# Altium integrated library Battery Management System Rev3.IntLib: 54 symbols
Pins are listed as number, name and electrical type; pins without a type are passive.

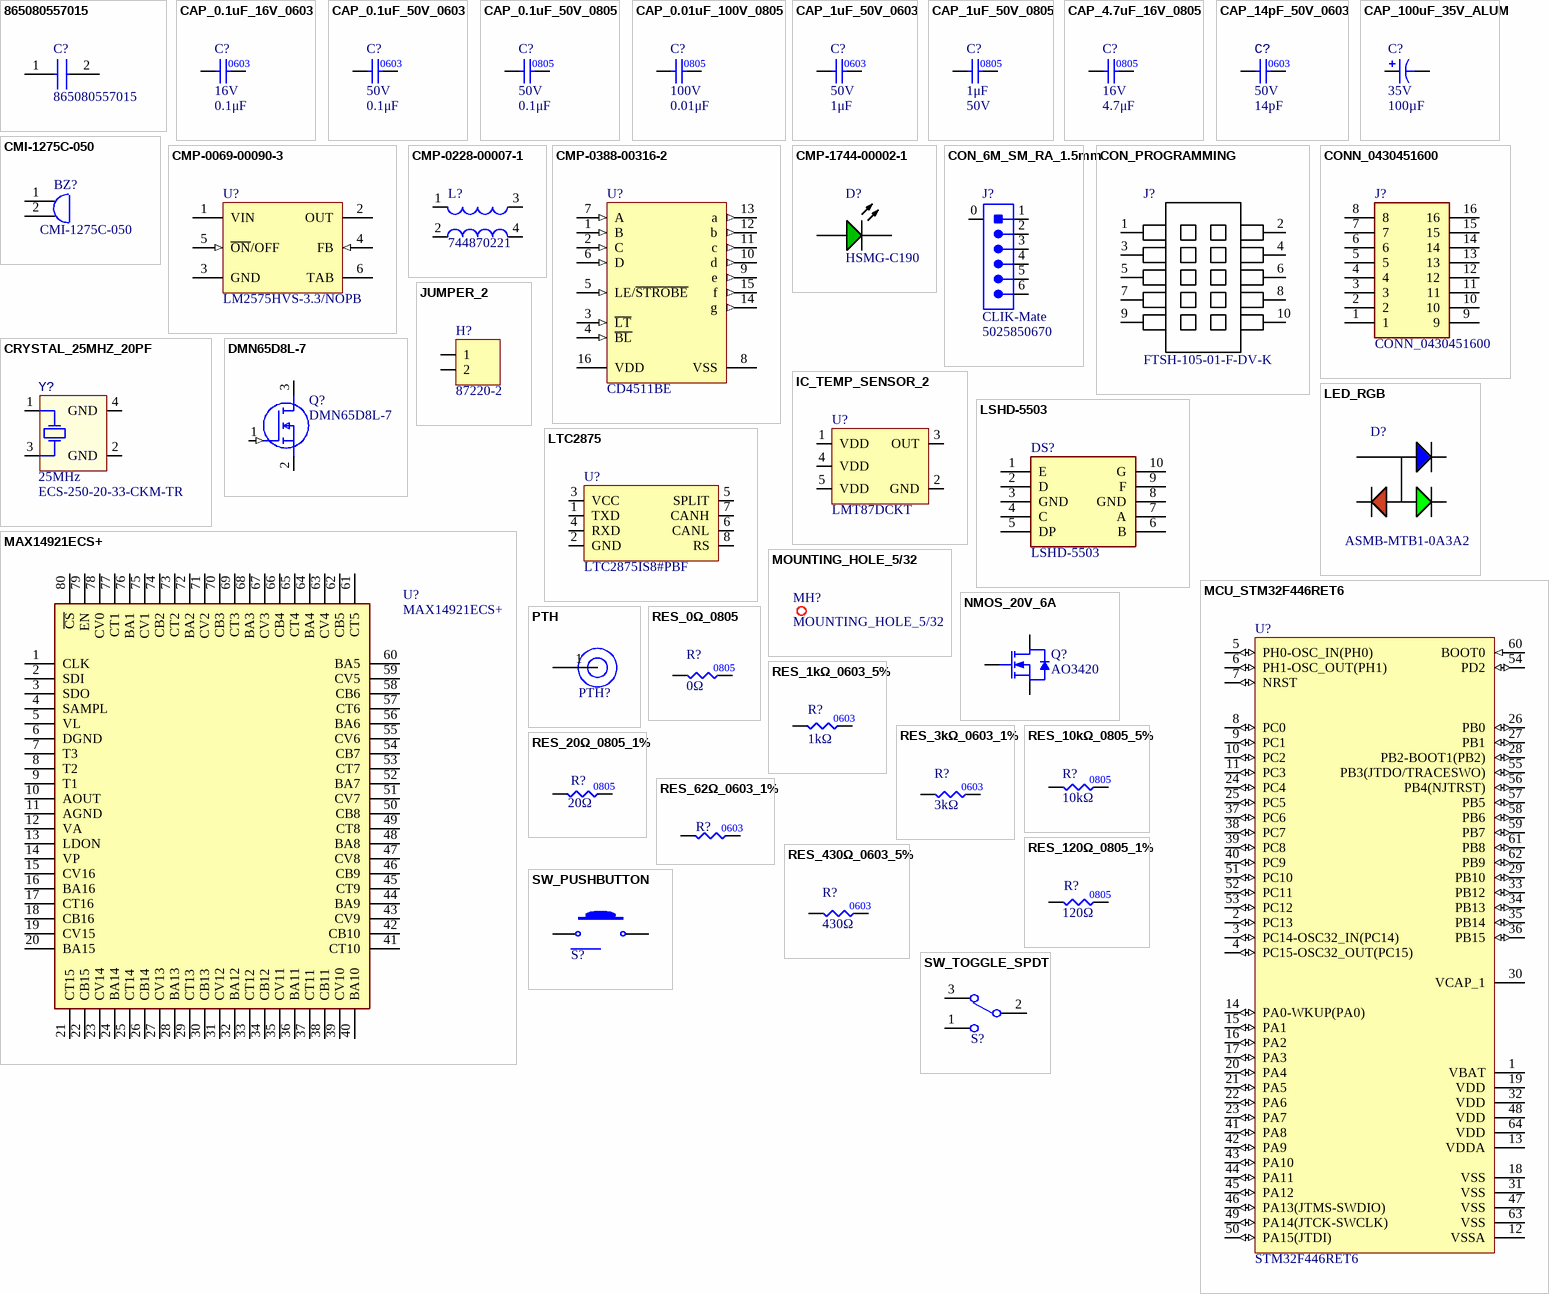
[diagram p0: symbols 865080557015 to SW_TOGGLE_SPDT]

## 865080557015
designator C?
Capacitor; Manufacturer_Name: Wurth Elektronik; Datasheet Link: https://nz.mouser.com/datasheet/2/445/865080557015-1726432.pdf; Height: 10.5mm; Manufacturer_Part_Number: 865080557015; Mouser Part Number: 710-865080557015; Mouser Price/Stock: https://www.mouser.co.uk/ProductDetail/Wurth-Elektronik/865080557015?qs=0KOYDY2FL29uKDjS3YVvFg%3D%3D
footprint CAPAE1030X1050N
pins: 1 +, 2 -

## CAP_0.1uF_16V_0603
designator C?  value 0.1μF  Voltage Rating: 16V  (hidden comment: CAP_0.1uF_16V_0603)
CAP CER 0.1UF 16V X7R 0603; Manufacturer Part Number 1: CC0603KRX7R7BB104; Manufacturer 1: Yageo; Package/Footprint: 0603; Supplier Part Number 1: 311-1088-1-ND; Supplier 1: Digi-Key; Dielectric: X7R; LCSC Number: C108079
footprint CAP0603
pins: 1, 2

## CAP_0.1uF_50V_0603
designator C?  value 0.1μF  Voltage Rating: 50V  (hidden comment: CAP_0.1uF_50V_0603)
CAP CER 0.1UF 50V X7R 0603; Manufacturer Part Number 1: CC0603KRX7R9BB104; Manufacturer 1: Yageo; Package/Footprint: 0603; Supplier Part Number 1: 311-1344-1-ND; Supplier 1: Digi-Key; Mounting Type: SMD; Dielectric: X7R
footprint CAP0603
pins: 1, 2

## CAP_0.1uF_50V_0805
designator C?  value 0.1μF  Voltage Rating: 50V  (hidden comment: CAP_0.1uF_50V_0805)
CAP CER 0.1UF 50V X7R 0805; Manufacturer Part Number 1: GCM21BR71H104KA37K; Manufacturer 1: Murata Electronics; Package/Footprint: 0805; Supplier Part Number 1: 490-8049-1-ND; Supplier 1: Digi-Key; Dielectric: X7R; LCSC Part #: C49678; Mounting Type: SMD
footprint CAP2012
pins: 1, 2

## CAP_0.01uF_100V_0805
designator C?  value 0.01μF  Voltage Rating: 100V  (hidden comment: CAP_0.01uF_100V_0805)
CAP CER 0.01uF 100V X7R 0805; Manufacturer Part Number 1: 08051C103KAT2A; Manufacturer 1: AVX Corporation; Supplier Part Number 1: 478-1358-1-ND; Supplier 1: Digi-Key; Dielectric: X7R; LCSC Part #: C1710; Mounting Type: SMD; Package: 0805
footprint CAP0805 (Chip Capacitor, Body 2.0x1.2mm, Height 0.45mm, IPC Medium Density)
pins: 1, 2

## CAP_1uF_50V_0603
designator C?  value 1μF  Voltage Rating: 50V  (hidden comment: CAP_1uF_50V_0603)
CAP CER 1UF 50V X6S 0603; Manufacturer Part Number 1: C1608X6S1H105K080AC; Manufacturer 1: TDK Corporation; Supplier Part Number 1: 445-7424-1-ND; Supplier 1: Digi-Key; Dielectric: X6S
footprint CAP0603
pins: 1, 2
text: 0603

## CAP_1uF_50V_0805
designator C?  value 1μF  Voltage Rating: 50V  (hidden comment: CAP_1uF_50V_0805)
CAP CER 1UF 50V X7R 0805; Manufacturer 1: Samsung Electro-Mechanics; Manufacturer Part Number 1: CL21B105KBFNNNG; Supplier 1: Digi-Key; Supplier Part Number 1: 1276-6470-1-ND; LCSC Part #: C28323; Mounting Type: SMD; Package: 0805
footprint CAP2012
pins: 1, 2

## CAP_4.7uF_16V_0805
designator C?  value 4.7μF  Voltage Rating: 16V  (hidden comment: CAP_4.7uF_16V_0805)
CAP CER 4.7UF 16V X5R 0805; Manufacturer Part Number 1: CL21A475KOFNNNE; Manufacturer 1: Samsung Electro-Mechanics; Supplier Part Number 1: 1276-1065-1-ND; Supplier 1: Digi-Key; Dielectric: X5R; LCSC Part #: C1779; Mounting Type: SMD; Package: 0805
footprint CAP0805 (Chip Capacitor, Body 2.0x1.2mm, Height 0.45mm, IPC Medium Density)
pins: 1, 2

## CAP_14pF_50V_0603
designator C?  value 14pF  Voltage Rating: 50V  (hidden comment: CAP_14pF_50V_0603)
CAP CER 14PF 50V C0G/NP0 0603; Manufacturer 1: Samsung; Manufacturer Part Number 1: CL10C140JB8NNNC; Dielectric: C0G; Supplier 1: Digi-Key; Supplier Part Number 1: 1276-2187-1-ND; Mounting Type: SMD; Package: 0603
footprint CAP0603
pins: 1, 2

## CAP_100uF_35V_ALUM
designator C?  value 100µF  Voltage Rating: 35V  (hidden comment: CAP_100uF_35V_ALUM)
CAP ALUM 100UF 20% 35V SMD; Manufacturer 1: Rubycon; Manufacturer Part Number 1: 35TKV100M8X10.5; Mounting Type: SMD; Package/Footprint: SMD; Supplier 1: Digi-Key; Supplier Part Number 1: 1189-2074-1-ND
footprint RADIAL_CORNELL_D (Size D radial surface mount capacitor)
pins: 1, 2

## CMI-1275C-050
designator BZ?
Buzzer; Manufacturer 1: CUI Inc.; Datasheet Link: https://componentsearchengine.com/Datasheets/1/CMI-1275C-050.pdf; Height: 8mm; Manufacturer Part Number 1: CMI-1275C-050; Mouser Part Number: 490-CMI-1275C-050; Mouser Price/Stock: https://www.mouser.co.uk/ProductDetail/CUI-Devices/CMI-1275C-050?qs=qCxwlXJ4fnyWvfqXc%252BNqAA%3D%3D; Arrow Part Number: CMI-1275C-050; Arrow Price/Stock: https://www.arrow.com/en/products/cmi-1275c-050/cui-inc; Supplier 1: Digi-Key; Supplier Part Number 1: 668-1456-ND
footprint CMI1275C050
pins: 1, 2

## CMP-0069-00090-3
designator U?, comment LM2575HVS-3.3/NOPB
SIMPLE SWITCHER® 1A Step-Down Voltage Regulator, 5-pin TO-263, Pb-Free; Manufacturer: Texas Instruments; Manufacturer: TI National Semiconductor; PowerWise: N; PackageTopMarking: NSUZXYTTE#*LM2575HVS*-3.3 P+; ComponentLink1URL: http://www.ti.com/general/docs/lit/getliterature.tsp?genericPartNumber=LM2575HV&fileType=pdf; ComponentLink1Description: Datasheet URL; RoHS: Y; PackageDescription: TO-263, Molded, .400 x .390 x .180in, 5 Lead, .067in Pitch, Surface Mount; PackageReference: KTT0005B; PinCount: 5; Code_JEDEC: MO-169-AB; CompType: Switcher; Manufacturer Part Number: LM2575HVS-3.3/NOPB
footprint KTT0005B_L (DPAK, 5-Leads, Body 10.65x9.65mm, Pitch 1.7mm, IPC High Density)
footprint KTT0005B_N (DPAK, 5-Leads, Body 10.65x9.65mm, Pitch 1.7mm, IPC Medium Density)
footprint KTT0005B_M (DPAK, 5-Leads, Body 10.65x9.65mm, Pitch 1.7mm, IPC Low Density)
pins: 1 VIN (power), 2 OUT (power), 3 GND (power), 4 FB (in), 5 ~{ON}/OFF (in), 6 TAB (power)

## CMP-0228-00007-1
designator L?, comment 744870221
SMD Shielded Coupled Inductor WE-DD, L = 220 µH; Manufacturer: Wurth Electronics; Inductance: 220 ÂµH; ComponentLink1URL: http://www.we-online.com; DatasheetVersion: ver 6, Mar-2005; PackageDescription: SMD Inductor, 4-Leads, Body 12.5 x 12.5 mm; ComponentLink2Description: Datasheet; PackageVersion: 2006; PackageReference: WE-DD-XL; ComponentLink1Description: Manufacturer Link; ComponentLink2URL: http://www.we-online.de/katalog/media/pdf/744870221.pdf; Manufacturer Part Number: 744870221
footprint WE-DD-XL (SMD Inductor, 4-Leads, Body 12.5x12.5x8.5 mm)
pins: 1, 2, 3, 4

## CMP-0388-00316-2
designator U?, comment CD4511BE
CMOS BCD-to-7-Segment LED Latch / Decoder / Driver, 3 to 18 V, -55 to 125 degC, 16-pin DIP (N16), Pb-Free (RoHS); Manufacturer: Texas Instruments; Vin(Max)(V): 18; Vin(Min)(V): 3; SubFamily: Discrete Segment LED Driver; Rating: Military; PackageDescription: 16-Pin Plastic In-Line, Body 19.305 x 6.35 mm, Pitch 2.54 mm; ComponentLink2Description: Datasheet; Code_JEDEC: MS-001; ComponentLink1Description: Manufacturer URL; PackageReference: N0016A; DatasheetVersion: SCHS072B; PartNumber: CD4511BE; ComponentLink1URL: http://www.ti.com/; Mounting Technology: Through Hole; PackageVersion: 4040049/E; Eco-Plan: Pb-Free (RoHS); ComponentLink3URL: http://www.ti.com/litv/pdf/mpdi002c; ComponentLink2URL: http://www.ti.com/general/docs/lit/getliterature.tsp?genericPartNumber=CD4511B&fileType=pdf; ComponentLink3Description: Package Specification; Manufacturer Part Number: CD4511BE
footprint N0016A (DIP, 16-Leads, Body 19.7x6.6mm, Pitch 2.54mm)
pins: 1 B (in), 2 C (in), 3 ~{LT} (in), 4 ~{BL} (in), 5 LE/~{STROBE} (in), 6 D (in), 7 A (in), 8 VSS (power), 9 e (out), 10 d (out), 11 c (out), 12 b (out), 13 a (out), 14 g (out), 15 f (out), 16 VDD (power)

## CMP-1744-00002-1
designator D?, comment HSMG-C190
Chip LED, Green, 2.2 V, -40 to 85 degC, 2-Pin SMD, RoHS, Tape and Reel; Manufacturer: Broadcom Avago; Frequency: 400 KHz; Max Supply Voltage: 5.5 V; Access Time: 3500 ns; Clock Frequency: 100 KHz; Case\Package: SOIC; Density: 32 kb; Nominal Supply Current: 2 mA; Interface: Serial; Min Supply Voltage: 1.7 V; Packaging: Tape and Reel; PackageReference: HSMX-C190; ComponentLink2URL: http://docs.avagotech.com/docs/AV02-0551EN; RoHSCompliant: true; Pins: 8; REACH SVHC: No SVHC; Max Operating Temperature: 85 degC; Width: 4 mm; Radiation Hardening: No; Package Quantity: 3000; ComponentLink3Description: Package Specification; ComponentLink1Description: Manufacturer URL; Min Operating Temperature: -40 degC; PackageDescription: 2-Pin Surface Mount Device, Body 1.6 x 0.8 mm, Height 0.9 mm; Max Clock Frequency: 100 KHz; Height: 1.5 mm; ComponentLink1URL: http://www.avagotech.com/; DatasheetVersion: Mar-12; ComponentLink2Description: Datasheet; Mount: Surface Mount; Length: 5 mm; ComponentLink3URL: http://www.fairchildsemi.com/dwg/MA/MA03D.pdf; LCSC Number: C188729; Manufacturer Part Number: HSMG-C190
footprint AVAG-HSMX-C190_V (SMD, 2-Leads, Body 1.6x0.8mm, Height 0.9mm)
pins: 1 A, 2 K

## CON_6M_SM_RA_1.5mm
designator J?  Family: CLIK-Mate  Manufacturer Part Number 1: 5025850670  (hidden comment: CON_6M_SM_RA_1.5mm)
CONN HEADER SMD RIGHT ANGLE 1.5 MM PITCH; Manufacturer 1: Molex; Supplier 1: Digi-Key; Supplier Part Number 1: WM12832CT-ND; Package/Footprint: SMD; Mounting Type: SMD
footprint MOLEX-5025850670
pins: 0, 1, 2, 3, 4, 5, 6

## CON_PROGRAMMING
designator J?  Manufacturer Part Number 1: FTSH-105-01-F-DV-K  (hidden comment: CON_PROGRAMMING)
CONN HEADER SMD 10POS 1.27MM; Manufacturer 1: Samtec; Supplier 1: Digi-Key; Pitch: 1.27mm; Supplier Part Number 1: SAM8796-ND; Mounting Type: SMD
footprint FTSH-105-01-F-DV-K-P-TR (Samtec programming header 10 positions)
pins: 1, 2, 3, 4, 5, 6, 7, 8, 9, 10

## CONN_0430451600
designator J?
Connector 16 Pin AJX; Manufacturer_Name: Molex; Datasheet Link: https://www.molex.com/pdm_docs/sd/430451600_sd.pdf; Height: 9.02mm; Manufacturer_Part_Number: 0430451600; Arrow Part Number: 0430451600; Arrow Price/Stock: https://www.arrow.com/en/products/0430451600/molex
footprint 0430451600
pins: 1, 2, 3, 4, 5, 6, 7, 8, 9, 10, 11, 12, 13, 14, 15, 16

## CRYSTAL_25MHZ_20PF
designator Y?  Frequency: 25MHz  Manufacturer Part Number 1: ECS-250-20-33-CKM-TR  (hidden comment: CRYSTAL_25MHZ_20PF)
CRYSTAL 25.0000MHZ 20PF SMD; Manufacturer 1: ECS Inc.; Load Capacitance: 20pF; Supplier 1: Digi-Key; Supplier Part Number 1: XC1817CT-ND; Mounting Type: SMD; Package/Footprint: SMD
footprint XTAL_ECS-250-20-33-CKM-TR
pins: 1 HOT, 2 GND (power), 3 HOT, 4 GND

## DMN65D8L-7
designator Q?
MOSFET (N-Channel); Manufacturer_Name: Diodes Inc.; Datasheet Link: https://www.diodes.com/assets/Datasheets/DMN65D8L.pdf; Height: 1mm; Manufacturer_Part_Number: DMN65D8L-7; Mouser Part Number: 621-DMN65D8L-7; Mouser Price/Stock: https://www.mouser.co.uk/ProductDetail/Diodes-Incorporated/DMN65D8L-7?qs=gfe7vQ8txpWvqTwiknwghA%3D%3D; Arrow Part Number: DMN65D8L-7; Arrow Price/Stock: https://www.arrow.com/en/products/dmn65d8l-7/diodes-incorporated?region=nac
footprint SOT96P240X100-3N
pins: 1 G (in), 2 S, 3 D

## IC_TEMP_SENSOR_2
designator U?  Manufacturer Part Number 1: LMT87DCKT  (hidden comment: IC_TEMP_SENSOR_2)
SENSOR ANALOG -50C-150C SC70-5; Manufacturer 1: Texas Instruments; Supplier Part Number 1: 296-35730-1-ND; Supplier 1: Digi-Key; Mounting Type: SMD; Package/Footprint: SC70-5
footprint SOT65P210X110-5N
pins: 1 VDD, 2 GND, 3 OUT, 4 VDD, 5 VDD

## JUMPER_2
designator H?  Manufacturer Part Number 1: 87220-2  (hidden comment: JUMPER_2)
HEADER 2X1; Manufacturer 1: TE Connectivity; Package/Footprint: TH; Supplier 1: Digi-Key; Supplier Part Number 1: A26542-ND; Mount: Through Hole; Mounting Type: TH
footprint HDR1X2 (Connector; Header; 2 Position)
pins: 1, 2

## LED_RGB
designator D?  Manufacturer Part Number 1: ASMB-MTB1-0A3A2  (hidden comment: LED_RGB)
LED RGB DIFFUSED 4PLCC SMD; Manufacturer 1: Broadcom; Color: Blue,Green,Red; Lens Color: White; Viewing Angle: 115°; Lens Style: Round; Luminous Intensity: 350mcd; Dominant Wavelength: 470nm; Forward Voltage: 3.1V; Test Current: 20mA; Package/Footprint: 4-PLCC; Supplier 1: Digi-Key; Number of Pins: 4; Lens Transparency: Diffused; Supplier Part Number 1: 516-3280-1-ND; Mounting Type: SMD
footprint LED_RGB
pins: 1 CATHODE (RED), 2 CATHODE (GREEN), 3 CATHODE (BLUE), 4 COMMON ANODE

## LSHD-5503
designator DS?
Display; Manufacturer_Name: Lite-On; Datasheet Link: https://componentsearchengine.com/Datasheets/1/LSHD-5503.pdf; Height: 8.25mm; Manufacturer_Part_Number: LSHD-5503; Mouser Part Number: 859-LSHD-5503; Mouser Price/Stock: https://www.mouser.com/Search/Refine.aspx?Keyword=859-LSHD-5503; Arrow Part Number: LSHD-5503; Arrow Price/Stock: https://www.arrow.com/en/products/lshd-5503/lite-on-technology
footprint DIPS1524W50P254L1240H825Q10N
pins: 1 E, 2 D, 3 GND, 4 C, 5 DP, 6 B, 7 A, 8 GND, 9 F, 10 G

## LTC2875
designator U?  Manufacturer Part Number 1: LTC2875IS8#PBF  (hidden comment: LTC2875)
IC TXRX CAN 4MBPS 8SO; Manufacturer 1: Linear Technologies; Package/Footprint: 8-SOIC; Supplier Part Number 1: LTC2875IS8#PBF-ND; Supplier 1: Digi-Key; LCSC Part #: C117076; Mounting Type: SMD
footprint LTC2875 (SOIC, 8-Leads, Body 5x4mm, Pitch 1.27mm, IPC Low Density)
footprint LT-S8_N (SOP, 8-Leads, Body 4.9x3.9mm, Pitch 1.27mm, IPC Medium Density)
pins: 1 TXD, 2 GND, 3 VCC, 4 RXD, 5 SPLIT, 6 CANL, 7 CANH, 8 RS

## MAX14921ECS+
designator U?
IC 16s BMS; Manufacturer_Name: Maxim Integrated; Datasheet Link: http://pdfserv.maximintegrated.com/package_dwgs/21-0072.PDF; Height: 1.2mm; Manufacturer_Part_Number: MAX14921ECS+; Mouser Part Number: 700-MAX14921ECS+; Mouser Price/Stock: https://www.mouser.co.uk/ProductDetail/Maxim-Integrated/MAX14921ECS%2b?qs=Vwh6e7toGLhlnKi5DjCusg%3D%3D
footprint QFP50P1400X1400X120-80N
pins: 1 CLK, 2 SDI, 3 SDO, 4 SAMPL, 5 VL, 6 DGND, 7 T3, 8 T2, 9 T1, 10 AOUT, 11 AGND, 12 VA, 13 LDON, 14 VP, 15 CV16, 16 BA16, 17 CT16, 18 CB16, 19 CV15, 20 BA15, 21 CT15, 22 CB15, 23 CV14, 24 BA14, 25 CT14, 26 CB14, 27 CV13, 28 BA13, 29 CT13, 30 CB13, 31 CV12, 32 BA12, 33 CT12, 34 CB12, 35 CV11, 36 BA11, 37 CT11, 38 CB11, 39 CV10, 40 BA10, 41 CT10, 42 CB10, 43 CV9, 44 BA9, 45 CT9, 46 CB9, 47 CV8, 48 BA8, 49 CT8, 50 CB8, 51 CV7, 52 BA7, 53 CT7, 54 CB7, 55 CV6, 56 BA6, 57 CT6, 58 CB6, 59 CV5, 60 BA5, 61 CT5, 62 CB5, 63 CV4, 64 BA4, 65 CT4, 66 CB4, 67 CV3, 68 BA3, 69 CT3, 70 CB3, 71 CV2, 72 BA2, 73 CT2, 74 CB2, 75 CV1, 76 BA1, 77 CT1, 78 CV0, 79 EN, 80 ~{CS}

## MCU_STM32F446RET6
designator U?, comment STM32F446RET6
ARM Cortex-M4 32-bit MCU+FPU, 512 KB Flash, 128 KB Internal RAM, 50 I/Os, 64-Pin LQFP, -40 to 85 degC, Tray; I/Os (High Current): 50; Supply Voltage(Vcc) min (V): 1.7; Operating Frequency(F) (Processor speed) (MHz): 180; D/A Converter: 2; Internal RAM Size (kB): 128; FLASH Size (Prog) (kB): 512; Core: ARM Cortex-M4; ComponentLink1Description: Manufacturer URL; Package Reference: 64-Pin Low-profile Quad Flat Package, Body 10 x 10 mm, Pitch 0.5 mm; ComponentLink2URL: http://www.st.com/st-web-ui/static/active/en/resource/technical/document/datasheet/DM00141306.pdf; Packing: Tray; DatasheetVersion: Rev. 6; ComponentLink1URL: http://www.st.com/; ComponentLink2Description: Datasheet; Package Description: LQFP64; Mounting Technology: Surface Mount; Supplier Part Number 1: 497-15376-ND; Supplier 1: Digi-Key
footprint STM-LQFP64_N (QFP, 64-Leads, Body 10x10mm, Pitch 0.5mm, IPC Medium Density)
footprint STM-LQFP64_M (QFP, 64-Leads, Body 10x10mm, Pitch 0.5mm, IPC Low Density)
footprint STM-LQFP64_L (QFP, 64-Leads, Body 10x10mm, Pitch 0.5mm, IPC High Density)
pins: 1 VBAT (power), 2 PC13 (io) "PC13/EVENTOUT/TAMP_1/WKUP1", 3 PC14-OSC32_IN(PC14) (io) "PC14/EVENTOUT/OSC32_IN", 4 PC15-OSC32_OUT(PC15) (io) "PC15/EVENTOUT/OSC32_OUT", 5 PH0-OSC_IN(PH0) (io) "PH0/EVENTOUT/OSC_IN", 6 PH1-OSC_OUT(PH1) (io) "PH1/EVENTOUT/OSC_OUT", 7 NRST (io), 8 PC0 (io) "PC0/SAI1_MCLK_B,OTG_HS_ULPI_STP,FMC_SDNWE,EVENTOUT/ADC123_IN10", 9 PC1 (io) "PC1/SPI3_MOSI/I2S3_SD,SAI1_SD_A,SPI2_MOSI/I2S2_SD,EVENTOUT/ADC123_IN11", 10 PC2 (io) "PC2/SPI2_MISO,OTG_HS_ULPI_DIR,FMC_SDNE0,EVENTOUT/ADC123_IN12", 11 PC3 (io) "PC3/SPI2_MOSI/I2S2_SD,OTG_HS_ULPI_NXT,FMC_SDCKE0,EVENTOUT/ADC123_IN13", 12 VSSA (power), 13 VDDA (power), 14 PA0-WKUP(PA0) (io) "PA0-WKUP(PA0)/TIM2_CH1/TIM2_ETR,TIM5_CH1,TIM8_ETR,USART2_CTS,UART4_TX,EVENTOUT/ADC123_IN0,WKUP0/TAMP_2", 15 PA1 (io) "PA1/TIM2_CH2,TIM5_CH2,USART2_RTS,UART4_RX,QUADSPI_BK1_IO3,SAI2_MCLK_B,EVENTOUT/ADC123_IN1", 16 PA2 (io) "PA2/TIM2_CH3,TIM5_CH3,TIM9_CH1,USART2_TX,SAI2_SCK_B,EVENTOUT/ADC123_IN2", 17 PA3 (io) "PA3/TIM2_CH4,TIM5_CH4,TIM9_CH2,SAI1_FS_A,USART2_RX,OTG_HS_ULPI_D0,EVENTOUT/ADC123_IN3", 18 VSS (power), 19 VDD (power), 20 PA4 (io) "PA4/SPI1_NSS/I2S1_WS,SPI3_NSS/I2S3_WS,USART2_CK,OTG_HS_SOF,DCMI_HSYNC,EVENTOUT/ADC12_IN4,DAC_OUT1", 21 PA5 (io) "PA5/TIM2_CH1/TIM2_ETR,TIM8_CH1N,SPI1_SCK/I2S1_CK,OTG_HS_ULPI_CK,EVENTOUT/ADC12_IN5,DAC_OUT2", 22 PA6 (io) "PA6/TIM1_BKIN,TIM3_CH1,TIM8_BKIN,SPI1_MISO,I2S2_MCK,TIM13_CH1,DCMI_PIXCLK,EVENTOUT/ADC12_IN6", 23 PA7 (io) "PA7/TIM1_CH1N,TIM3_CH2,TIM8_CH1N,SPI1_MOSI/I2S1_SD,TIM14_CH1,FMC_SDNWE,EVENTOUT/ADC12_IN7", 24 PC4 (io) "PC4/I2S1_MCK,SPDIFRX_IN2,FMC_SDNE0,EVENTOUT/ADC12_IN14", 25 PC5 (io) "PC5/USART3_RX,SPDIFRX_IN3,FMC_SDCKE0,EVENTOUT/ADC12_IN15", 26 PB0 (io) "PB0/TIM1_CH2N,TIM3_CH3,TIM8_CH2N,SPI3_MOSI/I2S3_SD,UART4_CTS,OTG_HS_ULPI_D1,SDIO_D1,EVENTOUT/ADC12_IN8", 27 PB1 (io) "PB1/TIM1_CH3N,TIM3_CH4,TIM8_CH3N,OTG_HS_ULPI_D2,SDIO_D2,EVENTOUT/ADC12_IN9", 28 PB2-BOOT1(PB2) (io) "PB2-BOOT1(PB2)/TIM2_CH4,SAI1_SD_A,SPI3_MOSI/I2S3_SD,QUADSPI_CLK,OTG_HS_ULPI_D4,SDIO_CK,EVENTOUT", 29 PB10 (io) "PB10/TIM2_CH3,I2C2_SCL,SPI2_SCK/I2S2_CK,SAI1_SCK_A,USART3_TX,OTG_HS_ULPI_D3,EVENTOUT", 30 VCAP_1, 31 VSS (power), 32 VDD (power), 33 PB12 (io) "PB12/TIM1_BKIN,I2C2_SMBA,SPI2_NSS/I2S2_WS,SAI1_SCK_B,USART3_CK,CAN2_RX,OTG_HS_ULPI_D5,OTG_HS_ID,EVENTOUT", 34 PB13 (io) "PB13/TIM1_CH1N,SPI2_SCK/I2S2_CK,USART3_CTS,CAN2_TX,OTG_HS_ULPI_D6,EVENTOUT/OTG_HS_VBUS", 35 PB14 (io) "PB14/TIM1_CH2N,TIM8_CH2N,SPI2_MISO,USART3_RTS,TIM12_CH1,OTG_HS_DM,EVENTOUT", 36 PB15 (io) "PB15/RTC_REFIN,TIM1_CH3N,TIM8_CH3N,SPI2_MOSI/I2S2_SD,TIM12_CH2,OTG_HS_DP,EVENTOUT", 37 PC6 (io) "PC6/TIM3_CH1,TIM8_CH1,FMPI2C1_SCL,I2S2_MCK,USART6_TX,SDIO_D6,DCMI_D0,EVENTOUT", 38 PC7 (io) "PC7/TIM3_CH2,TIM8_CH2,FMPI2C1_SDA,SPI2_SCK/I2S2_CK,I2S3_MCK,SPDIFRX_IN1,USART6_RX,SDIO_D7,DCMI_D1,EVENTOUT", 39 PC8 (io) "PC8/TRACED0,TIM3_CH3,TIM8_CH3,UART5_RTS,USART6_CK,SDIO_D0,DCMI_D2,EVENTOUT", 40 PC9 (io) "PC9/MCO2,TIM3_CH4,TIM8_CH4,I2C3_SDA,I2S_CKIN,UART5_CTS,QUADSPI_BK1_IO0,SDIO_D1,DCMI_D3,EVENTOUT", 41 PA8 (io) "PA8/MCO1,TIM1_CH1,I2C3_SCL,USART1_CK,OTG_FS_SOF,EVENTOUT", 42 PA9 (io) "PA9/TIM1_CH2,I2C3_SMBA,SPI2_SCK/I2S2_CK,SAI1_SD_B,USART1_TX,DCMI_D0,EVENTOUT/OTG_FS_VBUS", 43 PA10 (io) "PA10/TIM1_CH3,USART1_RX,OTG_FS_ID,DCMI_D1,EVENTOUT", 44 PA11 (io) "PA11/TIM1_CH4,USART1_CTS,CAN1_RX,OTG_FS_DM,EVENTOUT", 45 PA12 (io) "PA12/TIM1_ETR,USART1_RTS,SAI2_FS_B,CAN1_TX,OTG_FS_DP,EVENTOUT", 46 PA13(JTMS-SWDIO) (io) "PA13/JTMS-SWDIO,EVENTOUT", 47 VSS (power), 48 VDD (power), 49 PA14(JTCK-SWCLK) (io) "PA14/JTCK-SWCLK,EVENTOUT", 50 PA15(JTDI) (io) "PA15/JTDI,TIM2_CH1/TIM2_ETR,HDMI_CEC,SPI1_NSS/I2S1_WS,SPI3_NSS/I2S3_WS,UART4_RTS,EVENTOUT", 51 PC10 (io) "PC10/SPI3_SCK/I2S3_CK,USART3_TX,UART4_TX,QUADSPI_BK1_IO1,SDIO_D2,DCMI_D8,EVENTOUT", 52 PC11 (io) "PC11/SPI3_MISO,USART3_RX,UART4_RX,QUADSPI_BK2_NCS,SDIO_D3,DCMI_D4,EVENTOUT", 53 PC12 (io) "PC12/I2C2_SDA,SPI3_MOSI/I2S3_SD,USART3_CK,UART5_TX,SDIO_CK,DCMI_D9,EVENTOUT", 54 PD2 (io) "PD2/TIM3_ETR,UART5_RX,SDIO_CMD,DCMI_D11,EVENTOUT", 55 PB3(JTDO/TRACESWO) (io) "PB3/JTDO/TRACESWO,TIM2_CH2,I2C2_SDA,SPI1_SCK/I2S1_CK,SPI3_SCK/I2S3_CK,EVENTOUT", 56 PB4(NJTRST) (io) "PB4/NJTRST,TIM3_CH1,I2C3_SDA,SPI1_MISO,SPI3_MISO,SPI2_NSS/I2S2_WS,EVENTOUT", 57 PB5 (io) "PB5/TIM3_CH2,I2C1_SMBA,SPI1_MOSI/I2S1_SD,SPI3_MOSI/I2S3_SD,CAN2_RX,OTG_HS_ULPI_D7,FMC_SDCKE1,DCMI_D10,EVENTOUT", 58 PB6 (io) "PB6/TIM4_CH1,HDMI_CEC,I2C1_SCL,USART1_TX,CAN2_TX,QUADSPI_BK1_NCS,FMC_SDNE1,DCMI_D5,EVENTOUT", 59 PB7 (io) "PB7/TIM4_CH2,I2C1_SDA,USART1_RX,SPDIFRX_IN0,FMC_NL,DCMI_VSYNC,EVENTOUT", 60 BOOT0 (in) "BOOT0/VPP", 61 PB8 (io) "PB8/TIM2_CH1/TIM2_ETR,TIM4_CH3,TIM10_CH1,I2C1_SCL,CAN1_RX,SDIO_D4,DCMI_D6,EVENTOUT", 62 PB9 (io) "PB9/TIM2_CH2,TIM4_CH4,TIM11_CH1,I2C1_SDA,SPI2_NSS/I2S2_WS,SAI1_FS_B,CAN1_TX,SDIO_D5,DCMI_D7,EVENTOUT", 63 VSS (power), 64 VDD (power)

## MOUNTING_HOLE_5/32
designator MH?  (no BOM)
footprint MOUNTING_HOLE_5/38 (Meant to use with Mcmaster-carr PN: 91443A250)

## NMOS_20V_6A
designator Q?  Manufacturer Part Number 1: AO3420  (hidden comment: NMOS_20V_6A)
MOSFET N-CH 20V 6A SOT-23; Manufacturer 1: Alpha & Omega; Supplier 1: Digi-Key; Supplier Part Number 1: 785-1014-2-ND
footprint SOT23-3 (SOT23, 3-Leads, Body 2.90x2.30mm, Pitch 0.95mm, IPC Medium Density)
pins: 1 GATE, 2 SOURCE, 3 DRAIN

## PTH
designator PTH?  (value not drawn)
footprint PTH (Plated Through Hole)
pins: 1

## RES_0Ω_0805
designator R?  value 0Ω  (hidden comment: RES_0Ω_0805)
RES 0 OHM JUMPER 1/8W 0805; Manufacturer 1: Panasonic Electronic Components; Manufacturer Part Number 1: ERJ-6GEY0R00V; Package/Footprint: 0805; Supplier Part Number 1: P0.0ACT-ND; Supplier 1: Digi-Key; LCSC Part #: C17477; Mounting Type: SMD
footprint RES0805 (Chip Resistor, 2-Leads, Body 2.00x1.25mm, IPC High Density)
pins: 1, 2

## RES_1kΩ_0603_5%
designator R?  value 1kΩ  (hidden comment: RES_1kΩ_0603_5%)
RES 1K OHM 5% 1/10W 0603; Manufacturer 1: Yageo; Manufacturer Part Number 1: RC0603JR-071KL; Package/Footprint: 0603; Supplier Part Number 1: 311-1.0KGRCT-ND; Supplier 1: Digi-Key; Mounting Type: SMD; LCSC Number: C14676
footprint RES0603 (Chip Resistor, Body 1.6x0.8mm, IPC Medium Density)
pins: 1, 2

## RES_3kΩ_0603_1%
designator R?  value 3kΩ  (hidden comment: RES_3kΩ_0603_1%)
RES 3K OHM 1% 1/10W 0603; Manufacturer 1: Yageo; Manufacturer Part Number 1: RC0603FR-073KL; Supplier 1: Digi-Key; Supplier Part Number 1: 311-3.00KHRCT-ND
footprint RES0603 (Chip Resistor, Body 1.6x0.8mm, IPC Medium Density)
pins: 1, 2
text: 0603

## RES_10kΩ_0805_5%
designator R?  value 10kΩ  (hidden comment: RES_10kΩ_0805_5%)
RES 10K OHM 5% 1/8W 0805; Manufacturer 1: Panasonic Electronic Components; Manufacturer Part Number 1: ERJ-6GEYJ103V; Package/Footprint: 0805; Supplier Part Number 1: P10KACT-ND; Supplier 1: Digi-Key; LCSC Part #: C17414; Mounting Type: SMD
footprint RES0805 (Chip Resistor, 2-Leads, Body 2.00x1.25mm, IPC High Density)
pins: 1, 2

## RES_20Ω_0805_1%
designator R?  value 20Ω  (hidden comment: RES_20Ω_0805_1%)
RES 20 OHM 1% 1/8W 0805; Manufacturer 1: Yageo; Manufacturer Part Number 1: RC0805FR-0720RL; Supplier Part Number 1: 311-20.0CRCT-ND; Supplier 1: Digi-Key; LCSC Part #: C17581; Mounting Type: SMD; Package: 0805
footprint RES0805 (Chip Resistor, 2-Leads, Body 2.00x1.25mm, IPC High Density)
pins: 1, 2

## RES_62Ω_0603_1%
designator R?  (value not drawn)
RES 62 OHM 1% 1/10W 0603; Manufacturer: Vishay; Manufacturer Part Number: CRCW060362R0FKEA; Value: 62Ω; Supplier 1: Digi-Key; Supplier Part Number 1: 541-62.0HCT-ND; Package: 0603
footprint RES0603 (Chip Resistor, Body 1.6x0.8mm, IPC Medium Density)
pins: 1, 2

## RES_120Ω_0805_1%
designator R?  value 120Ω  (hidden comment: RES_120Ω_0805_1%)
RES 120 OHM 1% 1/8W 0805; Manufacturer 1: Vishay; Manufacturer Part Number 1: CRCW0805120RFKEA; Package/Footprint: 0805; Supplier Part Number 1: 541-120CCT-ND; Supplier 1: Digi-Key; LCSC Part #: C17437; Mounting Type: SMD
footprint RES0805 (Chip Resistor, 2-Leads, Body 2.00x1.25mm, IPC High Density)
pins: 1, 2

## RES_430Ω_0603_5%
designator R?  value 430Ω  (hidden comment: RES_430Ω_0603_5%)
RES 430 OHM 5% 1/10W 0603; Manufacturer 1: Stackpole Electronics; Manufacturer Part Number 1: RMCF0603JT430R; Package/Footprint: 0603; Supplier Part Number 1: RMCF0603JT430R; Supplier 1: Digi-Key; Mounting Type: SMD
footprint RES0603 (Chip Resistor, Body 1.6x0.8mm, IPC Medium Density)
pins: 1, 2

## SW_PUSHBUTTON
designator S?  (value not drawn)
SMT 3.0 X 2.6 MM TACT SWITCH WIT; Manufacturer Part Number 1: 435151014824; Manufacturer 1: Würth Elektronik; Supplier 1: Digi-Key; Supplier Part Number 1: 732-435151014824CT-ND
footprint TACTILE_SWITCH_SMD
pins: 1, 2

## SW_TOGGLE_SPDT
designator S?  (value not drawn)
SWITCH TOGGLE SPDT 5A 120V; Manufacturer 1: E-Switch; Manufacturer Part Number 1: 100SP1T1B4M2QE; Voltage Rating (DC): 28V; Package/Footprint: TH; Supplier 1: Digi-Key; Mounting Type: TH; Throw Configuration: SPDT; Supplier Part Number 1: EG2355-ND
footprint 100SP1T1B4M2QE
pins: 1, 2, 3

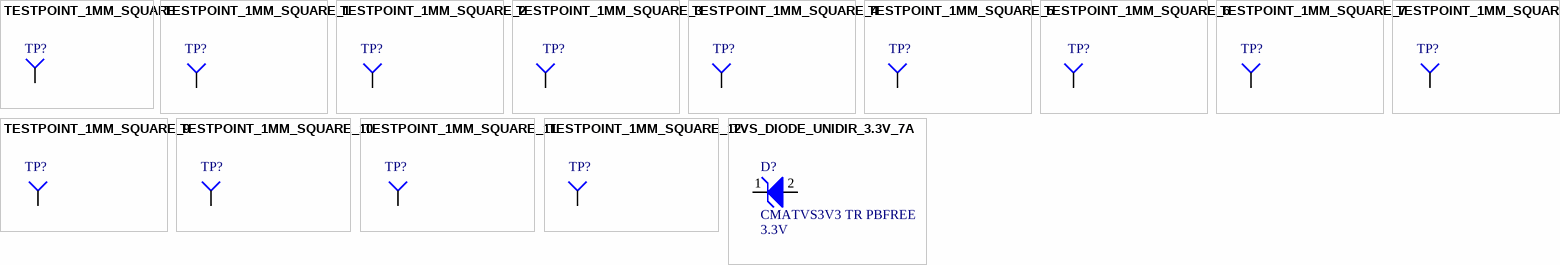
[diagram p1: symbols TESTPOINT_1MM_SQUARE to TVS_DIODE_UNIDIR_3.3V_7A]

## TESTPOINT_1MM_SQUARE
designator TP?  (value not drawn)  (no BOM)
TESTPOINT 1MM SQUARE
footprint TESTPOINT_SQUARE_1MM
pins: 1 =value

## TESTPOINT_1MM_SQUARE_1
designator TP?, comment TESTPOINT_1MM_SQUARE  (value not drawn)  (no BOM)
CELL0
footprint TESTPOINT_SQUARE_1MM
pins: 1 =value

## TESTPOINT_1MM_SQUARE_2
designator TP?, comment TESTPOINT_1MM_SQUARE  (value not drawn)  (no BOM)
CELL1
footprint TESTPOINT_SQUARE_1MM
pins: 1 =value

## TESTPOINT_1MM_SQUARE_3
designator TP?, comment TESTPOINT_1MM_SQUARE  (value not drawn)  (no BOM)
CELL2
footprint TESTPOINT_SQUARE_1MM
pins: 1 =value

## TESTPOINT_1MM_SQUARE_4
designator TP?, comment TESTPOINT_1MM_SQUARE  (value not drawn)  (no BOM)
CELL3
footprint TESTPOINT_SQUARE_1MM
pins: 1 =value

## TESTPOINT_1MM_SQUARE_5
designator TP?, comment TESTPOINT_1MM_SQUARE  (value not drawn)  (no BOM)
CELL4
footprint TESTPOINT_SQUARE_1MM
pins: 1 =value

## TESTPOINT_1MM_SQUARE_6
designator TP?, comment TESTPOINT_1MM_SQUARE  (value not drawn)  (no BOM)
CELL5
footprint TESTPOINT_SQUARE_1MM
pins: 1 =value

## TESTPOINT_1MM_SQUARE_7
designator TP?, comment TESTPOINT_1MM_SQUARE  (value not drawn)  (no BOM)
CELL11
footprint TESTPOINT_SQUARE_1MM
pins: 1 =value

## TESTPOINT_1MM_SQUARE_8
designator TP?, comment TESTPOINT_1MM_SQUARE  (value not drawn)  (no BOM)
CELL10
footprint TESTPOINT_SQUARE_1MM
pins: 1 =value

## TESTPOINT_1MM_SQUARE_9
designator TP?, comment TESTPOINT_1MM_SQUARE  (value not drawn)  (no BOM)
CELL9
footprint TESTPOINT_SQUARE_1MM
pins: 1 =value

## TESTPOINT_1MM_SQUARE_10
designator TP?, comment TESTPOINT_1MM_SQUARE  (value not drawn)  (no BOM)
CELL8
footprint TESTPOINT_SQUARE_1MM
pins: 1 =value

## TESTPOINT_1MM_SQUARE_11
designator TP?, comment TESTPOINT_1MM_SQUARE  (value not drawn)  (no BOM)
CELL7
footprint TESTPOINT_SQUARE_1MM
pins: 1 =value

## TESTPOINT_1MM_SQUARE_12
designator TP?, comment TESTPOINT_1MM_SQUARE  (value not drawn)  (no BOM)
CELL6
footprint TESTPOINT_SQUARE_1MM
pins: 1 =value

## TVS_DIODE_UNIDIR_3.3V_7A
designator D?  Manufacturer Part Number 1: CMATVS3V3 TR PBFREE  Voltage - Reverse Standoff (Typ): 3.3V  (hidden comment: TVS_DIODE_UNIDIR_3.3V_7A)
TVS DIODE 3.3VWM 11VC SOD923; Manufacturer 1: Central Semiconductor Corp; Package/Footprint: SOD-923; Voltage - Breakdown (Min): 5V; Voltage - Clamping (Max) @ Ipp: 11V; Supplier 1: Digi-Key; Supplier Part Number 1: 1514-CMATVS3V3TRPBFREECT-ND; Mounting Type: SMD
footprint SOD-923
pins: 1, 2